# EAGLE library part EUROSTYLE-06-HDR (library Molex-Aaron)
Eurostyle (tm) 3.50mm Pitch PCB Header, 6 Circuits This is the pluggable screw terminal block that Molex makes (like on the BQ76PL536 EVM boards). Molex series number: 39502 (horizontal header), 39501 (vertical header) Mates with: 39500 horizontal plug, 39503 vertical plug Website (horizontal header): http://www.molex.com/molex/products/datasheet.jsp?part=active/0395021006_TERMINAL_BLOCKS.xml Website (vertical header): http://www.molex.com/molex/products/datasheet.jsp?part=active/0395011006_TERMINAL_BLOCKS.xml Datasheet: http://www.molex.com/pdm_docs/sd/395021006_sd.pdf
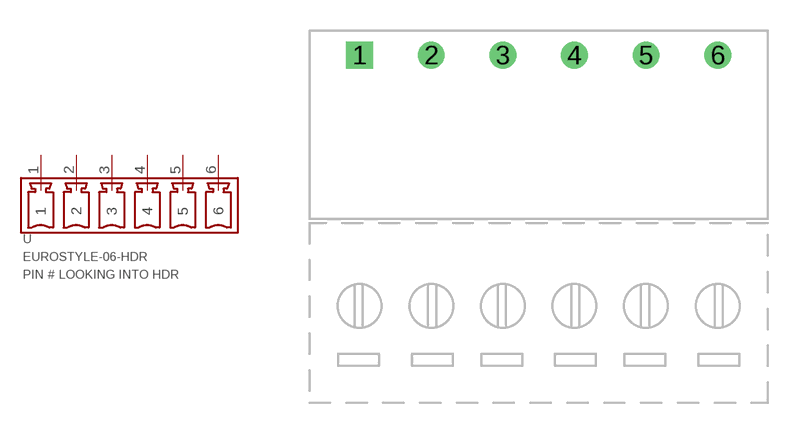
[diagram p12: symbol with the pads of EUROSTYLE_HEADER-6CKT-RA; footprint EUROSTYLE_HEADER-6CKT-RA]

Designator prefix -

## EUROSTYLE-06-HDR-HORIZONTAL  [EUROSTYLE_HEADER-6CKT-RA]
1  1
2  2
3  3
4  4
5  5
6  6

## Footprint EUROSTYLE_HEADER-6CKT-RA (pad centres in mm)
Eurostyle (tm) 3.50mm pitch Horizontal PCB Header, 6 Circuits Molex part number: 39502-1006 Website: http://www.molex.com/molex/products/datasheet.jsp?part=active/0395021006_TERMINAL_BLOCKS.xml Datasheet/drawing: http://www.molex.com/pdm_docs/sd/395021006_sd.pdf
drill 0.8 pad 1.22 square: 1 -8.75,0
drill 0.8 pad 1.22 round: 2 -5.25,0; 3 -1.75,0; 4 1.75,0; 5 5.25,0; 6 8.75,0